# EAGLE library part TPS74533PCQWDRVRQ1 (library TPS74533PCQWDRVRQ1)
LDO Voltage Regulators Automotive 500-mA, low-IQ, high-PSRR, low-dropout (LDO) voltage regulator with power good 6-WSON -40 to 125 Source: Datasheet <https://www.ti.com/lit/ds/symlink/tps745-q1.pdf?HQS=dis-mous-null-mousermode-dsf-pf-null-wwe&ts=1682067521580&ref_url=https%3A%2F%2Fwww.mouser.co.il%2F>
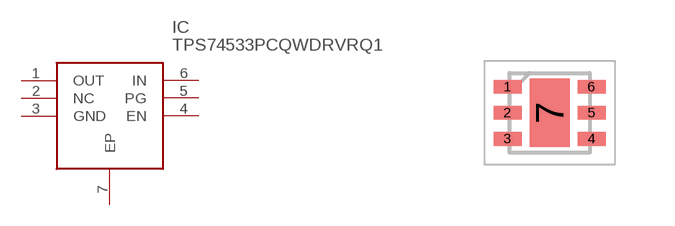
[diagram p0: symbol with the pads of SON65P200X200X80-7N; footprint SON65P200X200X80-7N]

Designator prefix IC

## TPS74533PCQWDRVRQ1 (Description: LDO Voltage Regulators Automotive 500-mA, low-IQ, high-PSRR,&nbsp;low-dropout (LDO) voltage regulator with power good</p 6-WSON -40 to 125; Height: 0.8mm; Manufacturer_Name: Texas Instruments; Manufacturer_Part_Number: TPS74533PCQWDRVRQ1; Mouser_Part_Number: 595-S74533PCQWDRVRQ1; Mouser_Price-Stock: https://www.mouser.co.uk/ProductDetail/Texas-Instruments/TPS74533PCQWDRVRQ1?qs=%252B6g0mu59x7JbJkoA8apsGg%3D%3D)  [SON65P200X200X80-7N]
1  OUT
2  NC  nc
3  GND
4  EN
5  PG
6  IN
7  EP

## Footprint SON65P200X200X80-7N (pad centres in mm)
TPS74533PCQWDRVRQ1-
smd 0.7 x 0.35: 1 -1.05,0.65; 2 -1.05,0; 3 -1.05,-0.65; 4 1.05,-0.65; 5 1.05,0; 6 1.05,0.65
smd 1 x 1.7: 7 0,0